# EAGLE library part PORT_8P_PADS_TB (library OneDollarBoard.com.1.004.r1)
Pad-only PCB port. No physical connector. 8 signals, top and bottom pads.
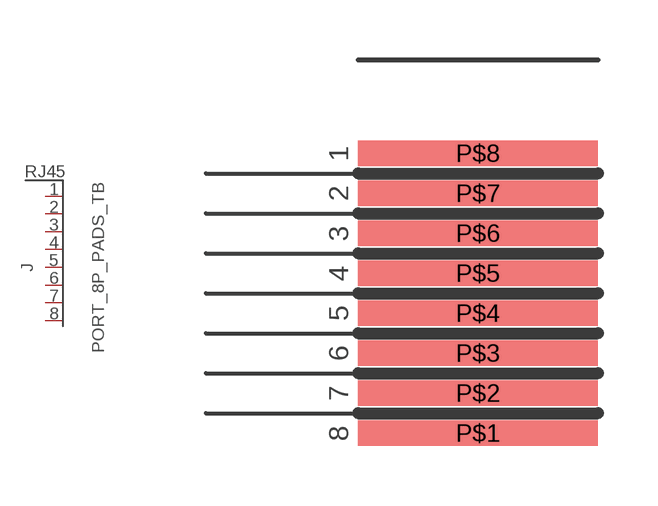
[diagram p1: symbol with the pads of 2.54/1.0; footprint 2.54/1.0]

Designator prefix J

## PORT_8P_PADS_TB (CATEGORY: Connectors; DESCRIPTION: Pad with 2.54 mm diamater and 1mm drill; PACKAGE_SIZE: NA; PACKAGE_TYPE: Through Hole; PITCH: NA)  [2.54/1.0]
P$1  P1  pas
P$2  P2  pas
P$3  P3  pas
P$4  P4  pas
P$5  P5  pas
P$6  P6  pas
P$7  P7  pas
P$8  P8  pas

## Footprint 2.54/1.0 (pad centres in mm)
Through-Hole Pad
smd 6 x 0.635: P$1 0,-3.5; P$2 0,-2.5; P$3 0,-1.5; P$4 0,-0.5; P$5 0,0.5; P$6 0,1.5; P$7 0,2.5; P$8 0,3.5